# EAGLE library part USB-MICRO (library Mine)
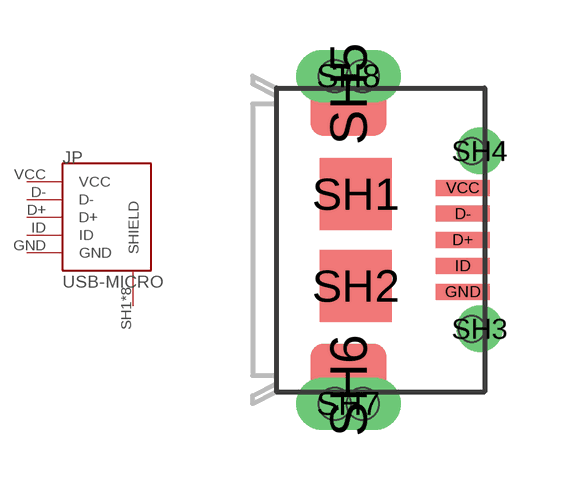
[diagram p87: symbol with the pads of MOLEX_47589-0001; footprint MOLEX_47589-0001]

Designator prefix JP

## USB-MICRO  [MOLEX_47589-0001]
D+  D+
D-  D-
GND  GND  pwr
ID  ID
SH1  SHIELD
SH2  SHIELD
SH3  SHIELD
SH4  SHIELD
SH5  SHIELD
SH6  SHIELD
SH7  SHIELD
SH8  SHIELD
VCC  VCC  pwr

## Footprint MOLEX_47589-0001 (pad centres in mm)
smd 1.35 x 0.4: D+ 2.855,0; D- 2.855,0.652; GND 2.855,-1.3; ID 2.855,-0.65; VCC 2.855,1.3
smd 1.8 x 1.8: SH1 0.18,1.15; SH2 0.18,-1.15
drill 0.65 pad 1.05: SH3 3.28,-2.225; SH4 3.28,2.225
smd 1.9 x 2.1: SH5 0,3.65; SH6 0,-3.65
drill 0.8 pad 1.2 long: SH7 0,-4.1; SH8 0,4.1
hole 0.8 at -0.35,-4.1
hole 0.8 at 0.35,-4.1
hole 0.8 at -0.35,4.1
hole 0.8 at 0.35,4.1
hole 0.65 at 3.08,2.225
hole 0.65 at 3.08,-2.225